# EAGLE library part MC56002 (library F030NG)
DSP / MC56002
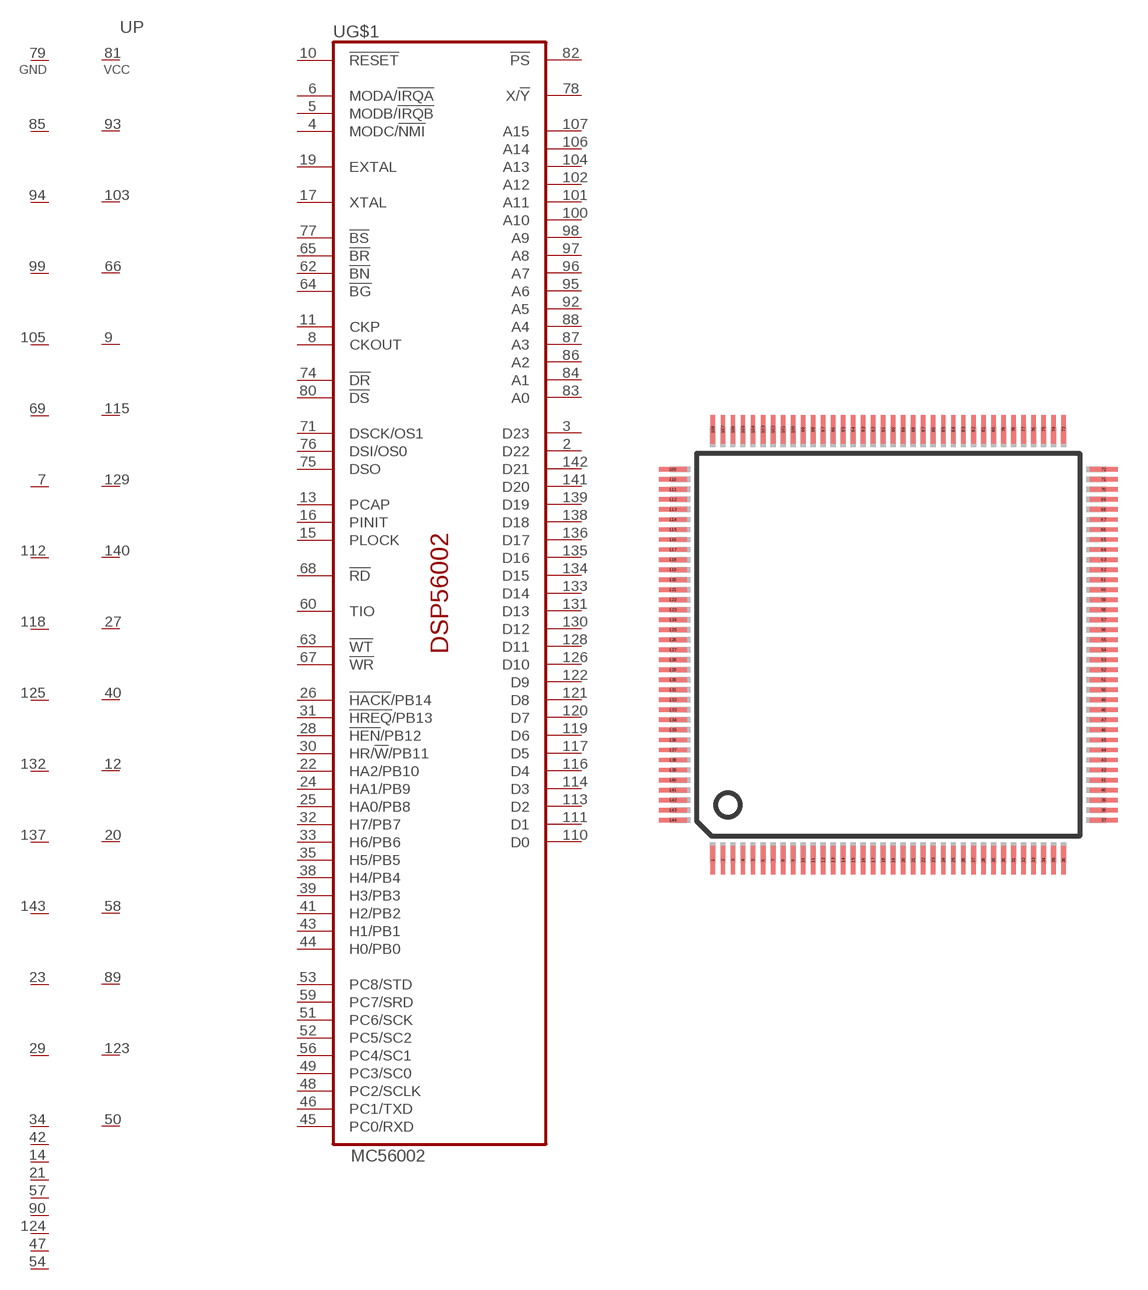
[diagram p48: symbol with the pads of TQFP144; footprint TQFP144]

Designator prefix U; gates G$1=MC56002 P=16VCC_24GND

## MC56002-TQFP  [TQFP144]
2  G$1:D22
3  G$1:D23
4  G$1:MODC/!NMI  in
5  G$1:MODB/!IRQB  in
6  G$1:MODA/!IRQA  in
7  P:GND  pwr
8  G$1:CKOUT  out
9  P:VCC  pwr
10  G$1:!RESET  in
11  G$1:CKP
12  P:VCC  pwr
13  G$1:PCAP  pas
14  P:GND  pwr
15  G$1:PLOCK  pas
16  G$1:PINIT  pas
17  G$1:XTAL  in
19  G$1:EXTAL  in
20  P:VCC  pwr
21  P:GND  pwr
22  G$1:HA2/PB10
23  P:GND  pwr
24  G$1:HA1/PB9
25  G$1:HA0/PB8
26  G$1:!HACK!/PB14
27  P:VCC  pwr
28  G$1:!HEN!/PB12
29  P:GND  pwr
30  G$1:HR/!W!/PB11
31  G$1:!HREQ!/PB13
32  G$1:H7/PB7
33  G$1:H6/PB6
34  P:GND  pwr
35  G$1:H5/PB5
38  G$1:H4/PB4
39  G$1:H3/PB3
40  P:VCC  pwr
41  G$1:H2/PB2
42  P:GND  pwr
43  G$1:H1/PB1
44  G$1:H0/PB0
45  G$1:PC0/RXD  in
46  G$1:PC1/TXD  out
47  P:GND  pwr
48  G$1:PC2/SCLK
49  G$1:PC3/SC0
50  P:VCC  pwr
51  G$1:PC6/SCK
52  G$1:PC5/SC2
53  G$1:PC8/STD  out
54  P:GND  pwr
56  G$1:PC4/SC1
57  P:GND  pwr
58  P:VCC  pwr
59  G$1:PC7/SRD  in
60  G$1:TIO
62  G$1:!BN
63  G$1:!WT  out
64  G$1:!BG  out
65  G$1:!BR
66  P:VCC  pwr
67  G$1:!WR  out
68  G$1:!RD  pas
69  P:GND  pwr
71  G$1:DSCK/OS1  pas
74  G$1:!DR  out
75  G$1:DSO  out
76  G$1:DSI/OS0
77  G$1:!BS
78  G$1:X/!Y  out
79  P:GND  pwr
80  G$1:!DS  out
81  P:VCC  pwr
82  G$1:!PS  out
83  G$1:A0  out
84  G$1:A1  out
85  P:GND  pwr
86  G$1:A2  out
87  G$1:A3  out
88  G$1:A4  out
89  P:VCC  pwr
90  P:GND  pwr
92  G$1:A5  out
93  P:VCC  pwr
94  P:GND  pwr
95  G$1:A6  out
96  G$1:A7  out
97  G$1:A8  out
98  G$1:A9  out
99  P:GND  pwr
100  G$1:A10  out
101  G$1:A11  out
102  G$1:A12  out
103  P:VCC  pwr
104  G$1:A13  out
105  P:GND  pwr
106  G$1:A14  out
107  G$1:A15  out
110  G$1:D0
111  G$1:D1
112  P:GND  pwr
113  G$1:D2
114  G$1:D3
115  P:VCC  pwr
116  G$1:D4
117  G$1:D5
118  P:GND  pwr
119  G$1:D6
120  G$1:D7
121  G$1:D8
122  G$1:D9
123  P:VCC  pwr
124  P:GND  pwr
125  P:GND  pwr
126  G$1:D10
128  G$1:D11
129  P:VCC  pwr
130  G$1:D12
131  G$1:D13
132  P:GND  pwr
133  G$1:D14
134  G$1:D15
135  G$1:D16
136  G$1:D17
137  P:GND  pwr
138  G$1:D18
139  G$1:D19
140  P:VCC  pwr
141  G$1:D20
142  G$1:D21
143  P:GND  pwr

## Footprint TQFP144 (pad centres in mm)
Thin Quad Flat Pack
smd 0.22 x 1.44: 1 -8.75,-10.75; 2 -8.25,-10.75; 3 -7.75,-10.75; 4 -7.25,-10.75; 5 -6.75,-10.75; 6 -6.25,-10.75; 7 -5.75,-10.75; 8 -5.25,-10.75; 9 -4.75,-10.75; 10 -4.25,-10.75; 11 -3.75,-10.75; 12 -3.25,-10.75; 13 -2.75,-10.75; 14 -2.25,-10.75; 15 -1.75,-10.75; 16 -1.25,-10.75; 17 -0.75,-10.75; 18 -0.25,-10.75; 19 0.25,-10.75; 20 0.75,-10.75; 21 1.25,-10.75; 22 1.75,-10.75; 23 2.25,-10.75; 24 2.75,-10.75; 25 3.25,-10.75; 26 3.75,-10.75; 27 4.25,-10.75; 28 4.75,-10.75; 29 5.25,-10.75; 30 5.75,-10.75; 31 6.25,-10.75; 32 6.75,-10.75; 33 7.25,-10.75; 34 7.75,-10.75; 35 8.25,-10.75; 36 8.75,-10.75; 73 8.75,10.75; 74 8.25,10.75; 75 7.75,10.75; 76 7.25,10.75; 77 6.75,10.75; 78 6.25,10.75; 79 5.75,10.75; 80 5.25,10.75; 81 4.75,10.75; 82 4.25,10.75; 83 3.75,10.75; 84 3.25,10.75; 85 2.75,10.75; 86 2.25,10.75; 87 1.75,10.75; 88 1.25,10.75; 89 0.75,10.75; 90 0.25,10.75; 91 -0.25,10.75; 92 -0.75,10.75; 93 -1.25,10.75; 94 -1.75,10.75; 95 -2.25,10.75; 96 -2.75,10.75; 97 -3.25,10.75; 98 -3.75,10.75; 99 -4.25,10.75; 100 -4.75,10.75; 101 -5.25,10.75; 102 -5.75,10.75; 103 -6.25,10.75; 104 -6.75,10.75; 105 -7.25,10.75; 106 -7.75,10.75; 107 -8.25,10.75; 108 -8.75,10.75
smd 1.4 x 0.22: 37 10.75,-8.75; 38 10.75,-8.25; 39 10.75,-7.75; 40 10.75,-7.25; 41 10.75,-6.75; 42 10.75,-6.25; 43 10.75,-5.75; 44 10.75,-5.25; 45 10.75,-4.75; 46 10.75,-4.25; 47 10.75,-3.75; 48 10.75,-3.25; 49 10.75,-2.75; 50 10.75,-2.25; 51 10.75,-1.75; 52 10.75,-1.25; 53 10.75,-0.75; 54 10.75,-0.25; 55 10.75,0.25; 56 10.75,0.75; 57 10.75,1.25; 58 10.75,1.75; 59 10.75,2.25; 60 10.75,2.75; 61 10.75,3.25; 62 10.75,3.75; 63 10.75,4.25; 64 10.75,4.75; 65 10.75,5.25; 66 10.75,5.75; 67 10.75,6.25; 68 10.75,6.75; 69 10.75,7.25; 70 10.75,7.75; 71 10.75,8.25; 72 10.75,8.75; 109 -10.75,8.75; 110 -10.75,8.25; 111 -10.75,7.75; 112 -10.75,7.25; 113 -10.75,6.75; 114 -10.75,6.25; 115 -10.75,5.75; 116 -10.75,5.25; 117 -10.75,4.75; 118 -10.75,4.25; 119 -10.75,3.75; 120 -10.75,3.25; 121 -10.75,2.75; 122 -10.75,2.25; 123 -10.75,1.75; 124 -10.75,1.25; 125 -10.75,0.75; 126 -10.75,0.25; 127 -10.75,-0.25; 128 -10.75,-0.75; 129 -10.75,-1.25; 130 -10.75,-1.75; 131 -10.75,-2.25; 132 -10.75,-2.75; 133 -10.75,-3.25; 134 -10.75,-3.75; 135 -10.75,-4.25; 136 -10.75,-4.75; 137 -10.75,-5.25; 138 -10.75,-5.75; 139 -10.75,-6.25; 140 -10.75,-6.75; 141 -10.75,-7.25; 142 -10.75,-7.75; 143 -10.75,-8.25; 144 -10.75,-8.75